# Altium schematic symbol library capacitores.SchLib: 12 symbols
Pins are listed as number, name and electrical type; pins without a type are passive.

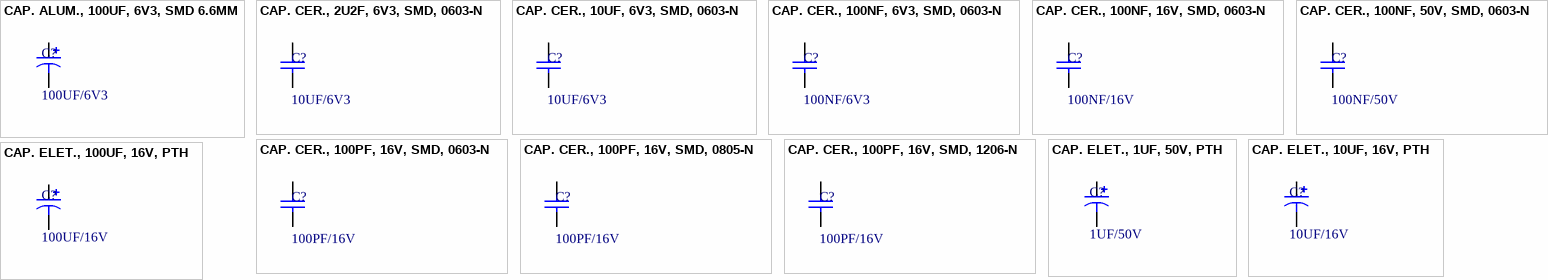
[diagram p0: symbols CAP. ALUM., 100UF, 6V3, SMD 6.6MM to CAP. ELET., 100UF, 16V, PTH]

## CAP. ALUM., 100UF, 6V3, SMD 6.6MM
designator C?, comment 100UF/6V3
Value: 100uF; Voltage: 6V3
footprint CAP ALUM SMD 6.6MM (Aluminum Electrolytic Capacitor, Body 6.60x6.60x7.70mm, IPC Low Density)
pins: 1, 2
1 alternate drawing of the same symbol

## CAP. CER., 2U2F, 6V3, SMD, 0603-N
designator C?, comment 10UF/6V3
Value: 2u2F; Voltage: 6V3
footprint CAP SMD 0603-N (Chip Capacitor, Body 1.6x0.8mm, IPC Medium Density)
pins: 1, 2

## CAP. CER., 10UF, 6V3, SMD, 0603-N
designator C?, comment 10UF/6V3
Value: 10uF; Voltage: 6V3
footprint CAP SMD 0603-N (Chip Capacitor, Body 1.6x0.8mm, IPC Medium Density)
pins: 1, 2

## CAP. CER., 100NF, 6V3, SMD, 0603-N
designator C?, comment 100NF/6V3
Tol: 20%; Value: 100nF; Voltage: 6V3
footprint CAP SMD 0603-N (Chip Capacitor, Body 1.6x0.8mm, IPC Medium Density)
pins: 1, 2

## CAP. CER., 100NF, 16V, SMD, 0603-N
designator C?, comment 100NF/16V
Tol: 20%; Value: 100nF; Voltage: 16V
footprint CAP SMD 0603-N (Chip Capacitor, Body 1.6x0.8mm, IPC Medium Density)
pins: 1, 2

## CAP. CER., 100NF, 50V, SMD, 0603-N
designator C?, comment 100NF/50V
Tol: 20%; Value: 100nF; Voltage: 50V
footprint CAP SMD 0603-N (Chip Capacitor, Body 1.6x0.8mm, IPC Medium Density)
pins: 1, 2

## CAP. CER., 100PF, 16V, SMD, 0603-N
designator C?, comment 100PF/16V
Tol: 20%; Value: 100pF; Voltage: 16V
footprint CAP SMD 0603-N (Chip Capacitor, Body 1.6x0.8mm, IPC Medium Density)
signal-integrity model Cap Semi
pins: 1, 2

## CAP. CER., 100PF, 16V, SMD, 0805-N
designator C?, comment 100PF/16V
Tol: 20%; Value: 100pF; Voltage: 16V
footprint CAP SMD 0805-N (Chip Capacitor, Body 2.0x1.3mm, IPC Medium Density)
signal-integrity model Cap Semi
pins: 1, 2

## CAP. CER., 100PF, 16V, SMD, 1206-N
designator C?, comment 100PF/16V
Tol: 20%; Value: 100pF; Voltage: 16V
footprint CAP SMD 1206-N (Chip Capacitor, Body 3.2x1.6mm, IPC Medium Density)
signal-integrity model Cap Semi
pins: 1, 2

## CAP. ELET., 1UF, 50V, PTH
designator C?, comment 1UF/50V
Tol: 20%; Value: 1uF; Voltage: 50V
footprint CAP PTH 1.5x4x7 (Capacitor, Electrolytic, Radial; Body 4 x 7 mm (Dia.xH typ); Pin Spacing 1.5 mm (typ))
simulation model CAP (Capacitor)
signal-integrity model Cap Pol
pins: 1, 2
1 alternate drawing of the same symbol

## CAP. ELET., 10UF, 16V, PTH
designator C?, comment 10UF/16V
Tol: 20%; Value: 10uF; Voltage: 16V
footprint CAP PTH 2x5x7 (Capacitor, Electrolytic, Radial; Body 5 x 7 mm (Dia.xH typ); Pin Spacing 2 mm (typ))
pins: 1, 2
1 alternate drawing of the same symbol

## CAP. ELET., 100UF, 16V, PTH
designator C?, comment 100UF/16V
Tol: 20%; Value: 100uF; Voltage: 16V
footprint CAP PTH 2x5x7 (Capacitor, Electrolytic, Radial; Body 5 x 7 mm (Dia.xH typ); Pin Spacing 2 mm (typ))
pins: 1, 2
1 alternate drawing of the same symbol